# EAGLE library part CTBOT_MCU_BRD_V2 (library ct-bot)
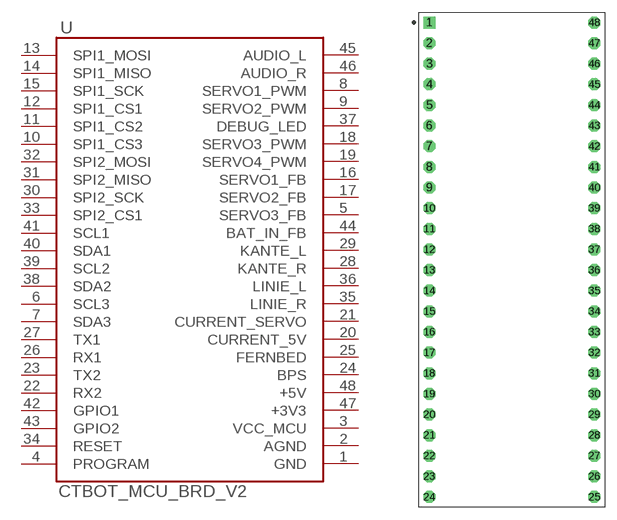
[diagram p28: symbol with the pads of DIP48; footprint DIP48]

Designator prefix -

## CTBOT_MCU_BRD_V2  [DIP48]
1  GND  pwr
2  AGND  pwr
3  VCC_MCU  pwr
4  PROGRAM  in
5  SERVO3_FB  in
6  SCL3  out
7  SDA3
8  SERVO1_PWM  out
9  SERVO2_PWM  out
10  SPI1_CS3  out
11  SPI1_CS2  out
12  SPI1_CS1  out
13  SPI1_MOSI  out
14  SPI1_MISO  in
15  SPI1_SCK  out
16  SERVO1_FB  in
17  SERVO2_FB  in
18  SERVO3_PWM
19  SERVO4_PWM
20  CURRENT_5V  in
21  CURRENT_SERVO  in
22  RX2  in
23  TX2  out
24  BPS  in
25  FERNBED  in
26  RX1  in
27  TX1  out
28  KANTE_R  in
29  KANTE_L  in
30  SPI2_SCK  out
31  SPI2_MISO  in
32  SPI2_MOSI  out
33  SPI2_CS1  out
34  RESET  in
35  LINIE_R  in
36  LINIE_L  in
37  DEBUG_LED  out
38  SDA2
39  SCL2  out
40  SDA1
41  SCL1  out
42  GPIO1
43  GPIO2
44  BAT_IN_FB  in
45  AUDIO_L  out
46  AUDIO_R  out
47  +3V3  pwr
48  +5V  pwr

## Footprint DIP48 (pad centres in mm)
48-DIP, 2.54 mm (0.10 in) pitch
drill 0.965 square: 1 1.27,59.69
drill 0.965 octagon: 2 1.27,57.15; 3 1.27,54.61; 4 1.27,52.07; 5 1.27,49.53; 6 1.27,46.99; 7 1.27,44.45; 8 1.27,41.91; 9 1.27,39.37; 10 1.27,36.83; 11 1.27,34.29; 12 1.27,31.75; 13 1.27,29.21; 14 1.27,26.67; 15 1.27,24.13; 16 1.27,21.59; 17 1.27,19.05; 18 1.27,16.51; 19 1.27,13.97; 20 1.27,11.43; 21 1.27,8.89; 22 1.27,6.35; 23 1.27,3.81; 24 1.27,1.27; 25 21.59,1.27; 26 21.59,3.81; 27 21.59,6.35; 28 21.59,8.89; 29 21.59,11.43; 30 21.59,13.97; 31 21.59,16.51; 32 21.59,19.05; 33 21.59,21.59; 34 21.59,24.13; 35 21.59,26.67; 36 21.59,29.21; 37 21.59,31.75; 38 21.59,34.29; 39 21.59,36.83; 40 21.59,39.37; 41 21.59,41.91; 42 21.59,44.45; 43 21.59,46.99; 44 21.59,49.53; 45 21.59,52.07; 46 21.59,54.61; 47 21.59,57.15; 48 21.59,59.69